# EAGLE library part MN3007 (library ic)
MN3007: 1024-stage bucket brigade (Panasonic) 51.2ms delay, 80dB range 0.5% THD, 12kHz fmax
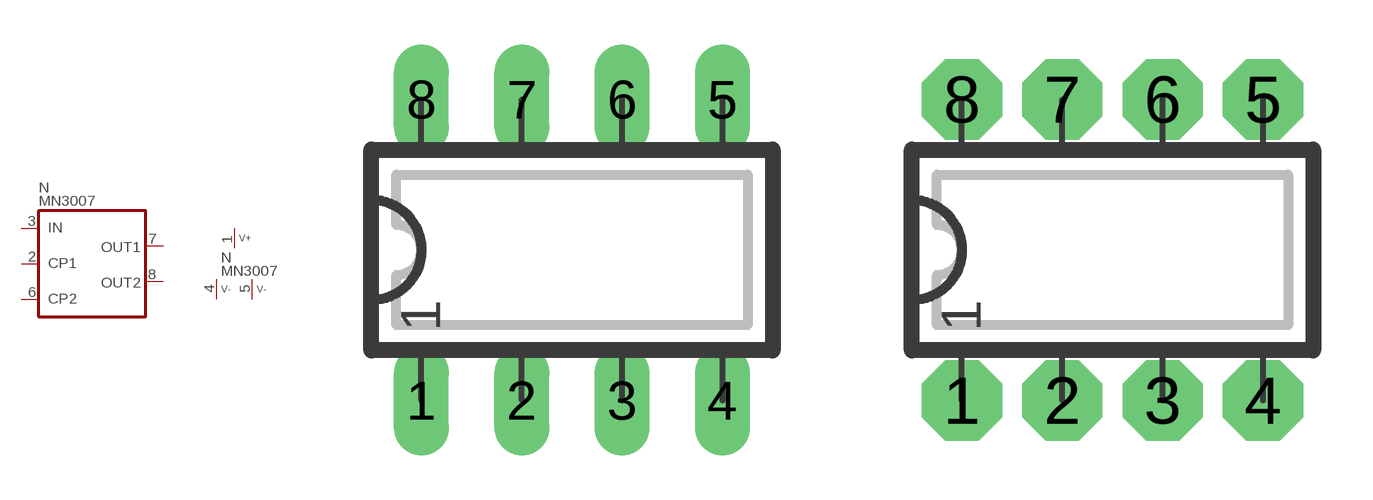
[diagram p72: symbol with the pads of DIP08L; footprints DIP08L, DIP08N]

Designator prefix N; gates  =MN3007 P=V+2GND

## MN3007  [DIP08L]
1  P:V+  pwr
2   :CP1  in
3   :IN  in
4  P:V-1  pwr
5  P:V-2  pwr
6   :CP2  in
7   :OUT1  out
8   :OUT2  out

## MN3007L  [DIP08L]
Pads as for DIP08L

## MN3007N  [DIP08N]
Pads as for DIP08L

## MN3007R  [DIP08R]
Pads as for DIP08L

## Footprint DIP08L (pad centres in mm)
DIP-8, long pads Standard IC package, 8 pins
drill 0.813 pad 1.397 long: 1 -3.81,-3.81; 2 -1.27,-3.81; 3 1.27,-3.81; 4 3.81,-3.81; 5 3.81,3.81; 6 1.27,3.81; 7 -1.27,3.81; 8 -3.81,3.81

## Footprint DIP08N (pad centres in mm)
DIP-8 Standard IC package, 8 pins
drill 0.813 pad 2.032 octagon: 1 -3.81,-3.81; 2 -1.27,-3.81; 3 1.27,-3.81; 4 3.81,-3.81; 5 3.81,3.81; 6 1.27,3.81; 7 -1.27,3.81; 8 -3.81,3.81

## Footprint DIP08R (pad centres in mm)
DIP-8, reduced pads Standard IC package, 8 pins
drill 0.813 pad 1.397 square: 1 -3.81,-3.81; 2 -1.27,-3.81; 3 1.27,-3.81; 4 3.81,-3.81; 5 3.81,3.81; 6 1.27,3.81; 7 -1.27,3.81; 8 -3.81,3.81